# Altium footprint library DF11-14DP-2DS(24).PCBLIB: 1 footprints
Each footprint in its own frame and in the unit in brackets; x right, y up, seen from the top. Pads: shape width x height; smd on the part's side, far side on the other; paste and mask are expansions set on the pad; w line width, h text height; cw(c..) or ccw(c..) is an arc to the next point about the centre after c.
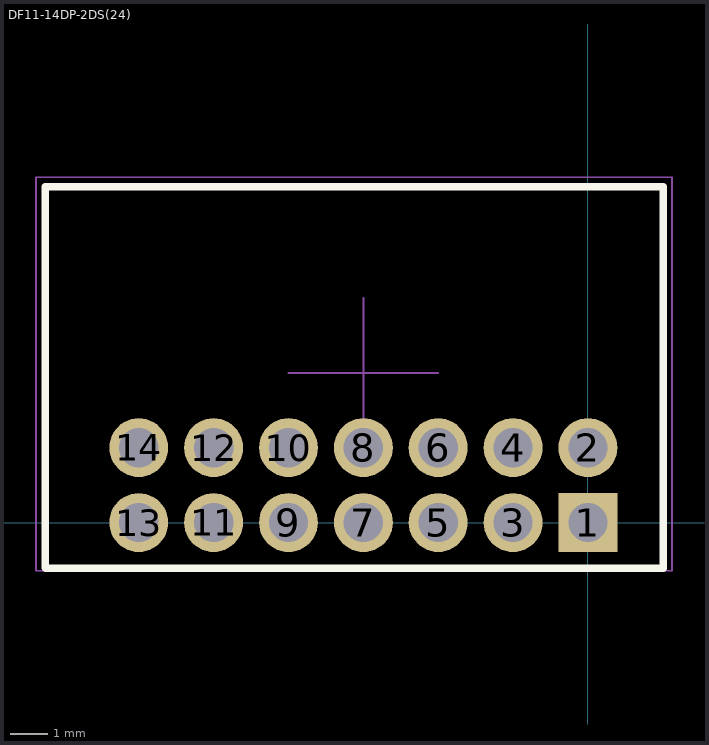
[diagram p0: the footprint, top view; thin cyan lines are the x and y axes]

## DF11-14DP-2DS(24) [mm]
pads (14):
  rect 1.575x1.575 hole 1.05: 1(0,0)
  round 1.575 hole 1.05: 2(0,2) 3(-2,0) 4(-2,2) 5(-4,0) 6(-4,2) 7(-6,0) 8(-6,2) 9(-8,0) 10(-8,2) 11(-10,0) 12(-10,2) 13(-12,0) 14(-12,2)
Top Overlay:
  lines w0.2: -14.5,-1.208 -14.5,8.975 2.015,8.975 2.015,-1.222 -14.485,-1.222 -14.5,-1.208
Top Assembly:
  lines w0.1: -14.5,-1.27 2,-1.27 2,8.975 -14.5,8.975 -14.5,-1.27
Top Courtyard:
  lines w0.05: -14.75,-1.288 2.25,-1.288 2.25,9.225 -14.75,9.225 -14.75,-1.288
Top Designator:
  text ".Designator" at -8.767,5.208 h0.76
Top Component Center:
  lines w0.05: -8,4 -4,4 ; -6,2 -6,6
3D body "DF11-14DP-2DS_24_.stp": height 5.3, standoff -3.3, extent -14,-0.3 2,8.675